# Altium footprint library MY DB LIBRARY.PcbLib: 20 footprints (part 2 of 2)
Each footprint in its own frame and in the unit in brackets; x right, y up, seen from the top. Pads: shape width x height; smd on the part's side, far side on the other; paste and mask are expansions set on the pad; w line width, h text height; cw(c..) or ccw(c..) is an arc to the next point about the centre after c.
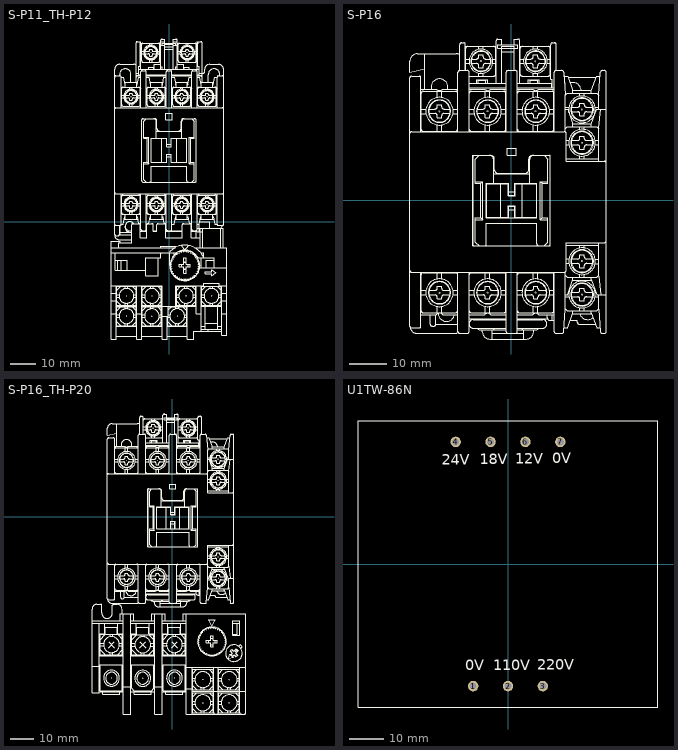
[diagram p1: the footprints below, top view; thin cyan lines are the x and y axes]

## S-P11_TH-P12 [mm]
height 83
pads (14):
  round 0.5 hole 0.3: 1(-15.138,49.301) 2(-16.967,-37.211) 3(-5.131,49.276) 4(-6.96,-37.262) 5(4.826,49.301) 6(3.124,-37.262) 13(14.884,49.301) 14(14.834,6.731) 95(6.604,-29.159) 96(16.637,-29.21) 97(-6.858,-29.312) 98(-16.942,-29.235) A1(7.036,66.7) A2(-7.366,66.675)
Top Overlay:
  drawing of 1049 lines, arcs and shapes, not listed

## S-P16 [mm]
height 83
pads (12):
  round 0.5 hole 0.3: 1(-19.456,24.028) 2(-19.406,-24.994) 3(-6.452,24.079) 4(-6.426,-24.917) 5(6.528,24.079) 6(6.528,-24.892) 13(18.999,24.536) 14(19.075,-25.425) 21(19.101,15.545) 22(19.025,-16.358) A1(6.452,37.541) A2(-8.23,37.643)
Top Overlay:
  drawing of 747 lines, arcs and shapes, not listed

## S-P16_TH-P20 [mm]
height 83
pads (16):
  round 0.5 hole 0.3: 1(-19.228,23.673) 2(-25.552,-67.691) 3(-6.172,23.698) 4(-12.395,-67.767) 5(6.731,23.698) 6(0.914,-67.691) 13(19.253,24.155) 14(19.329,-25.806) 21(19.304,15.189) 22(19.253,-16.815) 95(23.876,-68.351) 96(12.827,-68.301) 97(23.876,-78.029) 98(12.802,-78.105) A1(6.68,37.236) A2(-8.001,37.186)
Top Overlay:
  drawing of 1123 lines, arcs and shapes, not listed

## U1TW-86N [mm]
height 90
pads (7):
  round 3 hole 2: 1(-10,-35) 2(0,-35) 3(10,-35) 4(-15,35) 5(-5,35) 6(5,35) 7(15,35)
Top Overlay:
  lines w0.127: -43,-41 43,-41 43,41 -43,41 -43,-41
  text "0V" at -12.217,-30.48 h3
  text "110V" at -4.267,-30.429 h3
  text "220V" at 8.331,-30.302 h3
  text "24V" at -18.999,28.473 h3
  text "18V" at -8.128,28.626 h3
  text "12V" at 2.032,28.677 h3
  text "0V" at 12.624,28.88 h3